# EAGLE library part XC2SE-PQ208 (library Xilinx)
Spartan 2E FPGA in PQ208 Package.
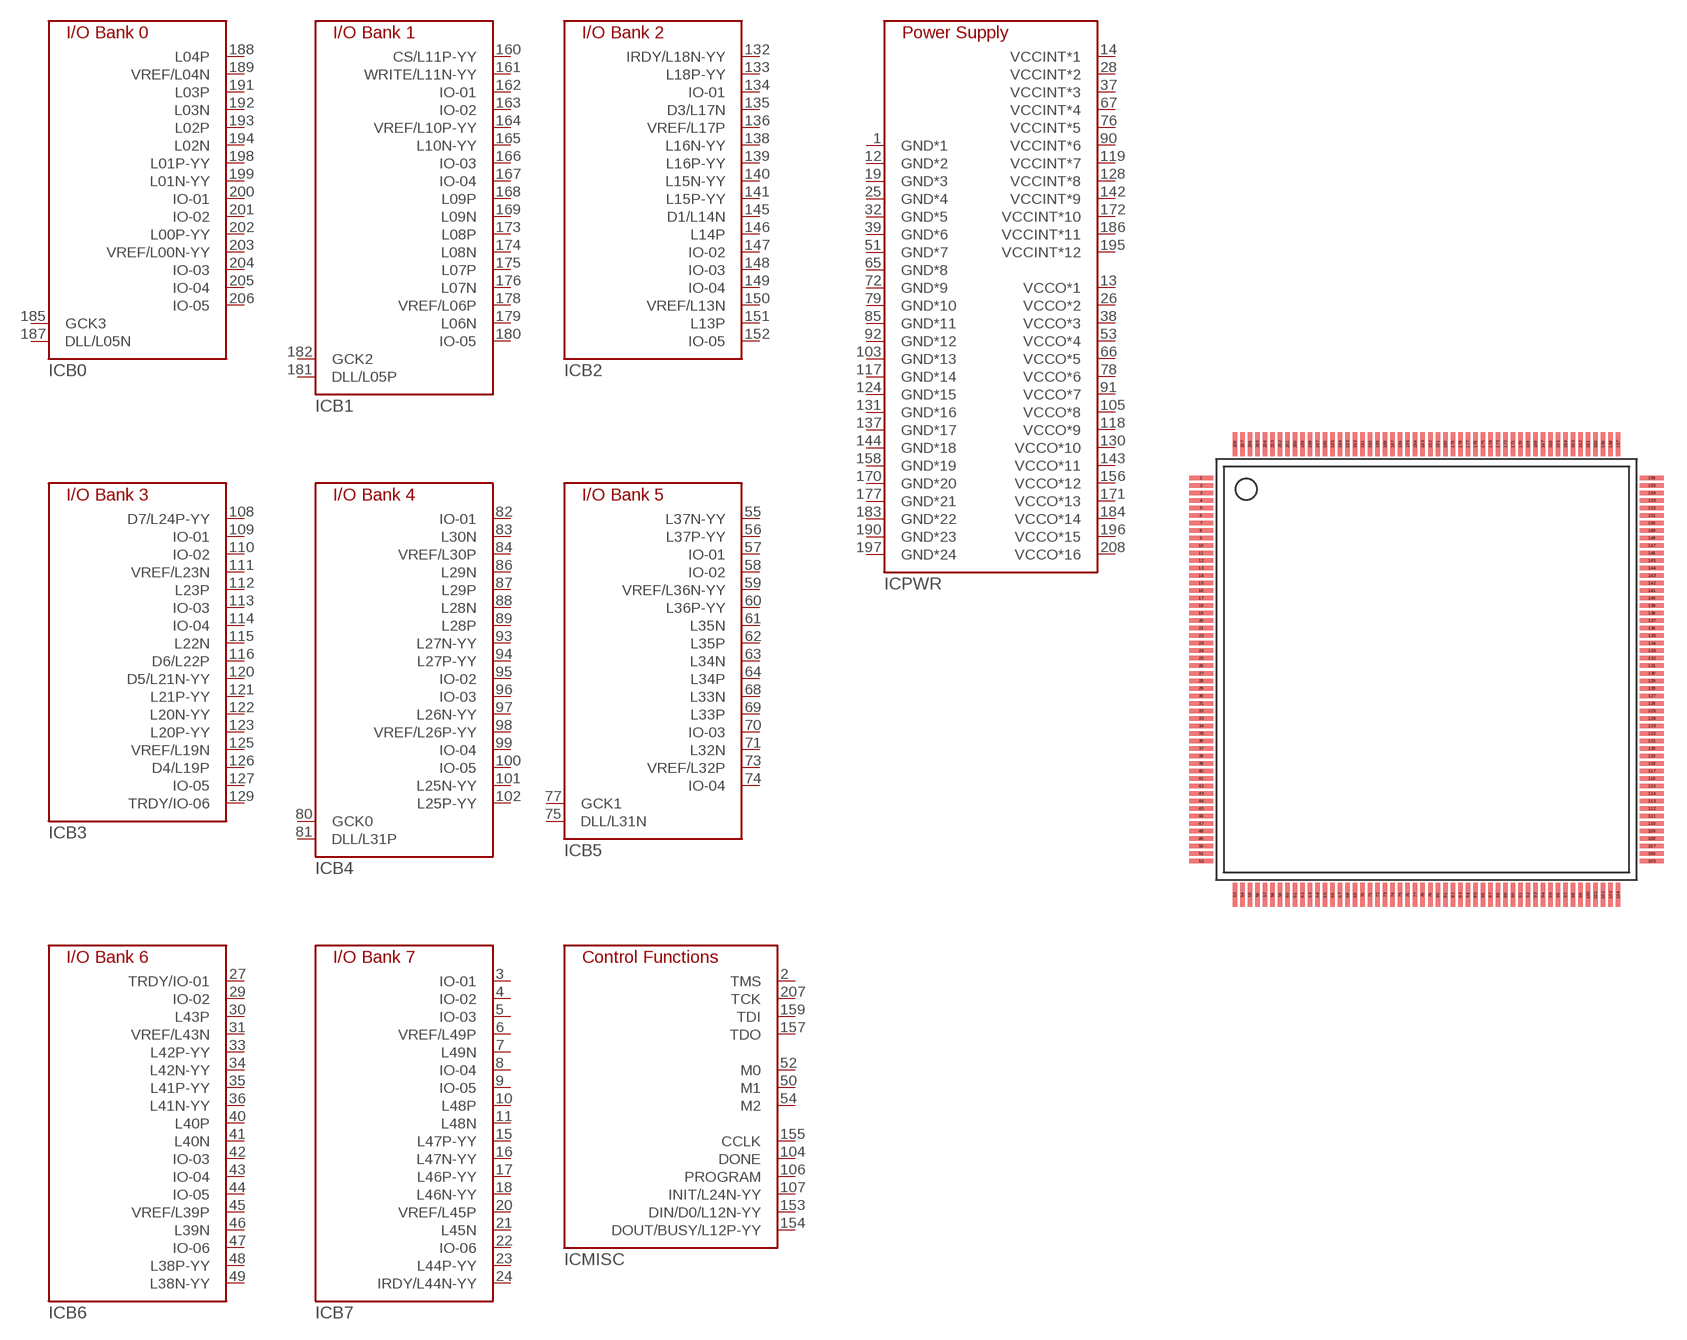
[diagram p15: symbol with the pads of PQ208; footprint PQ208]

Designator prefix IC; gates B0=XC2SE/PQ208-B0 B1=XC2SE/PQ208-B1 B2=XC2SE/PQ208-B2 B3=XC2SE/PQ208-B3 B4=XC2SE/PQ208-B4 B5=XC2SE/PQ208-B5 B6=XC2SE/PQ208-B6 B7=XC2SE/PQ208-B7 MISC=XC2SE/PQ208-MISC PWR=XC2SE/PQ208-PWR

## XC2SE-PQ208  [PQ208]
1  PWR:GND*1  pwr
2  MISC:TMS
3  B7:IO-01
4  B7:IO-02
5  B7:IO-03
6  B7:VREF/L49P
7  B7:L49N
8  B7:IO-04
9  B7:IO-05
10  B7:L48P
11  B7:L48N
12  PWR:GND*2  pwr
13  PWR:VCCO*1  pwr
14  PWR:VCCINT*1  pwr
15  B7:L47P-YY
16  B7:L47N-YY
17  B7:L46P-YY
18  B7:L46N-YY
19  PWR:GND*3  pwr
20  B7:VREF/L45P
21  B7:L45N
22  B7:IO-06
23  B7:L44P-YY
24  B7:IRDY/L44N-YY
25  PWR:GND*4  pwr
26  PWR:VCCO*2  pwr
27  B6:TRDY/IO-01
28  PWR:VCCINT*2  pwr
29  B6:IO-02
30  B6:L43P
31  B6:VREF/L43N
32  PWR:GND*5  pwr
33  B6:L42P-YY
34  B6:L42N-YY
35  B6:L41P-YY
36  B6:L41N-YY
37  PWR:VCCINT*3  pwr
38  PWR:VCCO*3  pwr
39  PWR:GND*6  pwr
40  B6:L40P
41  B6:L40N
42  B6:IO-03
43  B6:IO-04
44  B6:IO-05
45  B6:VREF/L39P
46  B6:L39N
47  B6:IO-06
48  B6:L38P-YY
49  B6:L38N-YY
50  MISC:M1
51  PWR:GND*7  pwr
52  MISC:M0
53  PWR:VCCO*4  pwr
54  MISC:M2
55  B5:L37N-YY
56  B5:L37P-YY
57  B5:IO-01
58  B5:IO-02
59  B5:VREF/L36N-YY
60  B5:L36P-YY
61  B5:L35N
62  B5:L35P
63  B5:L34N
64  B5:L34P
65  PWR:GND*8  pwr
66  PWR:VCCO*5  pwr
67  PWR:VCCINT*4  pwr
68  B5:L33N
69  B5:L33P
70  B5:IO-03
71  B5:L32N
72  PWR:GND*9  pwr
73  B5:VREF/L32P
74  B5:IO-04
75  B5:DLL/L31N
76  PWR:VCCINT*5  pwr
77  B5:GCK1
78  PWR:VCCO*6  pwr
79  PWR:GND*10  pwr
80  B4:GCK0
81  B4:DLL/L31P
82  B4:IO-01
83  B4:L30N
84  B4:VREF/L30P
85  PWR:GND*11  pwr
86  B4:L29N
87  B4:L29P
88  B4:L28N
89  B4:L28P
90  PWR:VCCINT*6  pwr
91  PWR:VCCO*7  pwr
92  PWR:GND*12  pwr
93  B4:L27N-YY
94  B4:L27P-YY
95  B4:IO-02
96  B4:IO-03
97  B4:L26N-YY
98  B4:VREF/L26P-YY
99  B4:IO-04
100  B4:IO-05
101  B4:L25N-YY
102  B4:L25P-YY
103  PWR:GND*13  pwr
104  MISC:DONE
105  PWR:VCCO*8  pwr
106  MISC:PROGRAM
107  MISC:INIT/L24N-YY
108  B3:D7/L24P-YY
109  B3:IO-01
110  B3:IO-02
111  B3:VREF/L23N
112  B3:L23P
113  B3:IO-03
114  B3:IO-04
115  B3:L22N
116  B3:D6/L22P
117  PWR:GND*14  pwr
118  PWR:VCCO*9  pwr
119  PWR:VCCINT*7  pwr
120  B3:D5/L21N-YY
121  B3:L21P-YY
122  B3:L20N-YY
123  B3:L20P-YY
124  PWR:GND*15  pwr
125  B3:VREF/L19N
126  B3:D4/L19P
127  B3:IO-05
128  PWR:VCCINT*8  pwr
129  B3:TRDY/IO-06
130  PWR:VCCO*10  pwr
131  PWR:GND*16  pwr
132  B2:IRDY/L18N-YY
133  B2:L18P-YY
134  B2:IO-01
135  B2:D3/L17N
136  B2:VREF/L17P
137  PWR:GND*17  pwr
138  B2:L16N-YY
139  B2:L16P-YY
140  B2:L15N-YY
141  B2:L15P-YY
142  PWR:VCCINT*9  pwr
143  PWR:VCCO*11  pwr
144  PWR:GND*18  pwr
145  B2:D1/L14N
146  B2:L14P
147  B2:IO-02
148  B2:IO-03
149  B2:IO-04
150  B2:VREF/L13N
151  B2:L13P
152  B2:IO-05
153  MISC:DIN/D0/L12N-YY
154  MISC:DOUT/BUSY/L12P-YY
155  MISC:CCLK
156  PWR:VCCO*12  pwr
157  MISC:TDO
158  PWR:GND*19  pwr
159  MISC:TDI
160  B1:CS/L11P-YY
161  B1:WRITE/L11N-YY
162  B1:IO-01
163  B1:IO-02
164  B1:VREF/L10P-YY
165  B1:L10N-YY
166  B1:IO-03
167  B1:IO-04
168  B1:L09P
169  B1:L09N
170  PWR:GND*20  pwr
171  PWR:VCCO*13  pwr
172  PWR:VCCINT*10  pwr
173  B1:L08P
174  B1:L08N
175  B1:L07P
176  B1:L07N
177  PWR:GND*21  pwr
178  B1:VREF/L06P
179  B1:L06N
180  B1:IO-05
181  B1:DLL/L05P
182  B1:GCK2
183  PWR:GND*22  pwr
184  PWR:VCCO*14  pwr
185  B0:GCK3
186  PWR:VCCINT*11  pwr
187  B0:DLL/L05N
188  B0:L04P
189  B0:VREF/L04N
190  PWR:GND*23  pwr
191  B0:L03P
192  B0:L03N
193  B0:L02P
194  B0:L02N
195  PWR:VCCINT*12  pwr
196  PWR:VCCO*15  pwr
197  PWR:GND*24  pwr
198  B0:L01P-YY
199  B0:L01N-YY
200  B0:IO-01
201  B0:IO-02
202  B0:L00P-YY
203  B0:VREF/L00N-YY
204  B0:IO-03
205  B0:IO-04
206  B0:IO-05
207  MISC:TCK
208  PWR:VCCO*16  pwr

## Footprint PQ208 (pad centres in mm)
smd 1.6 x 0.3: 1 -15,12.75; 2 -15,12.25; 3 -15,11.75; 4 -15,11.25; 5 -15,10.75; 6 -15,10.25; 7 -15,9.75; 8 -15,9.25; 9 -15,8.75; 10 -15,8.25; 11 -15,7.75; 12 -15,7.25; 13 -15,6.75; 14 -15,6.25; 15 -15,5.75; 16 -15,5.25; 17 -15,4.75; 18 -15,4.25; 19 -15,3.75; 20 -15,3.25; 21 -15,2.75; 22 -15,2.25; 23 -15,1.75; 24 -15,1.25; 25 -15,0.75; 26 -15,0.25; 27 -15,-0.25; 28 -15,-0.75; 29 -15,-1.25; 30 -15,-1.75; 31 -15,-2.25; 32 -15,-2.75; 33 -15,-3.25; 34 -15,-3.75; 35 -15,-4.25; 36 -15,-4.75; 37 -15,-5.25; 38 -15,-5.75; 39 -15,-6.25; 40 -15,-6.75; 41 -15,-7.25; 42 -15,-7.75; 43 -15,-8.25; 44 -15,-8.75; 45 -15,-9.25; 46 -15,-9.75; 47 -15,-10.25; 48 -15,-10.75; 49 -15,-11.25; 50 -15,-11.75; 51 -15,-12.25; 52 -15,-12.75; 105 15,-12.75; 106 15,-12.25; 107 15,-11.75; 108 15,-11.25; 109 15,-10.75; 110 15,-10.25; 111 15,-9.75; 112 15,-9.25; 113 15,-8.75; 114 15,-8.25; 115 15,-7.75; 116 15,-7.25; 117 15,-6.75; 118 15,-6.25; 119 15,-5.75; 120 15,-5.25; 121 15,-4.75; 122 15,-4.25; 123 15,-3.75; 124 15,-3.25; 125 15,-2.75; 126 15,-2.25; 127 15,-1.75; 128 15,-1.25; 129 15,-0.75; 130 15,-0.25; 131 15,0.25; 132 15,0.75; 133 15,1.25; 134 15,1.75; 135 15,2.25; 136 15,2.75; 137 15,3.25; 138 15,3.75; 139 15,4.25; 140 15,4.75; 141 15,5.25; 142 15,5.75; 143 15,6.25; 144 15,6.75; 145 15,7.25; 146 15,7.75; 147 15,8.25; 148 15,8.75; 149 15,9.25; 150 15,9.75; 151 15,10.25; 152 15,10.75; 153 15,11.25; 154 15,11.75; 155 15,12.25; 156 15,12.75
smd 0.3 x 1.6: 53 -12.75,-15; 54 -12.25,-15; 55 -11.75,-15; 56 -11.25,-15; 57 -10.75,-15; 58 -10.25,-15; 59 -9.75,-15; 60 -9.25,-15; 61 -8.75,-15; 62 -8.25,-15; 63 -7.75,-15; 64 -7.25,-15; 65 -6.75,-15; 66 -6.25,-15; 67 -5.75,-15; 68 -5.25,-15; 69 -4.75,-15; 70 -4.25,-15; 71 -3.75,-15; 72 -3.25,-15; 73 -2.75,-15; 74 -2.25,-15; 75 -1.75,-15; 76 -1.25,-15; 77 -0.75,-15; 78 -0.25,-15; 79 0.25,-15; 80 0.75,-15; 81 1.25,-15; 82 1.75,-15; 83 2.25,-15; 84 2.75,-15; 85 3.25,-15; 86 3.75,-15; 87 4.25,-15; 88 4.75,-15; 89 5.25,-15; 90 5.75,-15; 91 6.25,-15; 92 6.75,-15; 93 7.25,-15; 94 7.75,-15; 95 8.25,-15; 96 8.75,-15; 97 9.25,-15; 98 9.75,-15; 99 10.25,-15; 100 10.75,-15; 101 11.25,-15; 102 11.75,-15; 103 12.25,-15; 104 12.75,-15; 157 12.75,15; 158 12.25,15; 159 11.75,15; 160 11.25,15; 161 10.75,15; 162 10.25,15; 163 9.75,15; 164 9.25,15; 165 8.75,15; 166 8.25,15; 167 7.75,15; 168 7.25,15; 169 6.75,15; 170 6.25,15; 171 5.75,15; 172 5.25,15; 173 4.75,15; 174 4.25,15; 175 3.75,15; 176 3.25,15; 177 2.75,15; 178 2.25,15; 179 1.75,15; 180 1.25,15; 181 0.75,15; 182 0.25,15; 183 -0.25,15; 184 -0.75,15; 185 -1.25,15; 186 -1.75,15; 187 -2.25,15; 188 -2.75,15; 189 -3.25,15; 190 -3.75,15; 191 -4.25,15; 192 -4.75,15; 193 -5.25,15; 194 -5.75,15; 195 -6.25,15; 196 -6.75,15; 197 -7.25,15; 198 -7.75,15; 199 -8.25,15; 200 -8.75,15; 201 -9.25,15; 202 -9.75,15; 203 -10.25,15; 204 -10.75,15; 205 -11.25,15; 206 -11.75,15; 207 -12.25,15; 208 -12.75,15